# Altium integrated library PL133-37TI-R.IntLib: 1 symbol
Pins are listed as number, name and electrical type; pins without a type are passive.

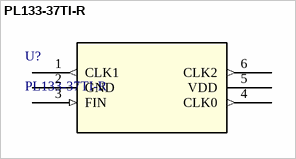
[diagram p0: symbol PL133-37TI-R]

## PL133-37TI-R
designator U?
Description; Manufacturer_Name: Microchip; Copyright: Copyright (C) 2025 Ultra Librarian. All rights reserved.; Manufacturer_Part_Number: PL133-37TI-R; RefDes: RefDes; Type: Type
footprint SOT-23-6_MC_MCH
pins: 1 CLK1 (out), 2 GND (power), 3 FIN (in), 4 CLK0 (out), 5 VDD (power), 6 CLK2 (out)